# Altium schematic symbol library VOLTAGE_REG(1.8-5.5V, BUCK_BST, 3.3V, 1.6A, 10VSON).SchLib: 1 symbol
Pins are listed as number, name and electrical type; pins without a type are passive.

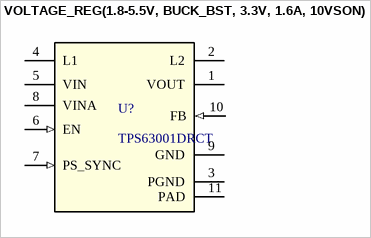
[diagram p0: symbol VOLTAGE_REG(1.8-5.5V, BUCK_BST, 3.3V, 1.6A, 10VSON)]

## VOLTAGE_REG(1.8-5.5V, BUCK_BST, 3.3V, 1.6A, 10VSON)
designator U?, comment TPS63001DRCT
96% Buck-Boost Converter with 1.7A Current Switches, 3.3V fixed Output voltage in 3x3 QFN 10-VSON -40 to 125; Manufacturer: Texas Instruments; Manufacturer_PN: TPS63001DRCT; Package: 10-VSON; Datasheet: https://www.ti.com/lit/gpn/tps63001; Digikey_Link: https://www.digikey.it/en/products/detail/texas-instruments/TPS63001DRCT/1672390?s=N4IgTCBcDaICoAUDKA2AzABgwRgCICUBhOEAXQF8g
footprint DRC0010J
pins: 1 VOUT (power), 2 L2, 3 PGND (power), 4 L1, 5 VIN (power), 6 EN (in), 7 PS_SYNC (in), 8 VINA (power), 9 GND (power), 10 FB (in), 11 PAD (power)